# Altium schematic symbol library Alcetronics_IC.SchLib: 38 symbols
Pins are listed as number, name and electrical type; pins without a type are passive.

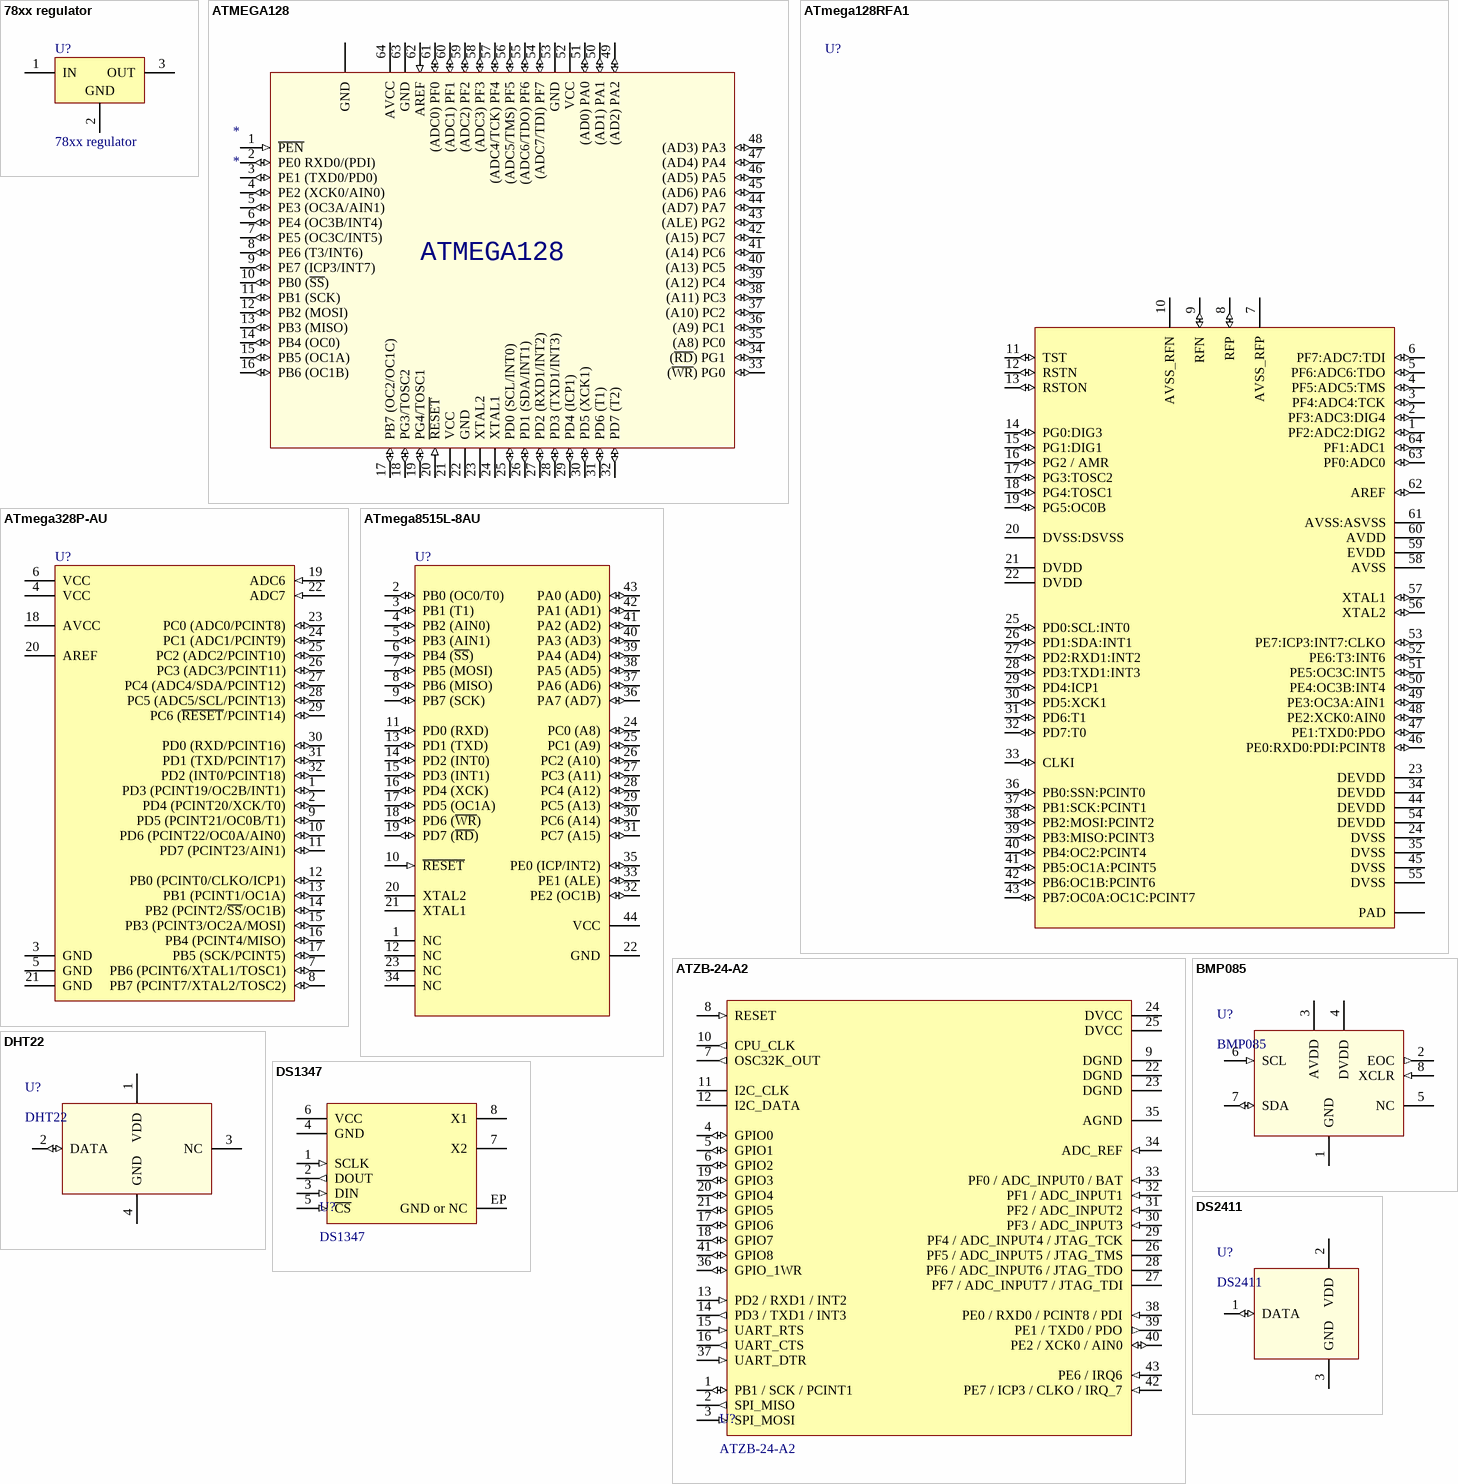
[diagram p0: symbols 78xx regulator to DS2411]

## 78xx regulator
designator U?
3-Terminal Medium-Current Positive Fixed Voltage Regulator; Note: Pin 2 is electrically connected to TAB; Published: 17-Jul-2002; DatasheetVersion: 1988; PackageReference: 221A-04; Publisher: Altium Limited; PackageDescription: TO, Thru-Hole, Vertical, Heatsink Mounted; 3 In-Line Leads; Pitch 2.54 mm; Code_JEDEC: TO-262-AA; ComponentLink1Description: Manufacturer Link; ComponentLink1URL: http://www.onsemi.com/site/products/taxonomy/0,4438,503,00.html; ComponentLink2Description: Datasheet; ComponentLink2URL: http://www.onsemi.com/pub/Collateral/MC78M00-D.PDF
footprint TO-220 (TO, Thru-Hole, Vertical, Heatsink Mounted; 3 In-Line Leads; Pitch 2.54 mm)
pins: 1 IN (power), 2 GND (power), 3 OUT (power)

## ATMEGA128
designator *
footprint QFN-64@EP
pins: 1 ~{PEN} (in), 2 PE0 RXD0/(PDI) (io), 3 PE1 (TXD0/PD0) (io), 4 PE2 (XCK0/AIN0) (io), 5 PE3 (OC3A/AIN1) (io), 6 PE4 (OC3B/INT4) (io), 7 PE5 (OC3C/INT5) (io), 8 PE6 (T3/INT6) (io), 9 PE7 (ICP3/INT7) (io), 10 PB0 (~{SS}) (io), 11 PB1 (SCK) (io), 12 PB2 (MOSI) (io), 13 PB3 (MISO) (io), 14 PB4 (OC0) (io), 15 PB5 (OC1A) (io), 16 PB6 (OC1B) (io), 17 PB7 (OC2/OC1C) (io), 18 PG3/TOSC2 (io), 19 PG4/TOSC1 (io), 20 ~{RESET} (in), 21 VCC (power), 22 GND (power), 23 XTAL2, 24 XTAL1, 25 PD0 (SCL/INT0) (io), 26 PD1 (SDA/INT1) (io), 27 PD2 (RXD1/INT2) (io), 28 PD3 (TXD1/INT3) (io), 29 PD4 (ICP1) (io), 30 PD5 (XCK1) (io), 31 PD6 (T1) (io), 32 PD7 (T2) (io), 33 (~{WR}) PG0 (io), 34 (~{RD}) PG1 (io), 35 (A8) PC0 (io), 36 (A9) PC1 (io), 37 (A10) PC2 (io), 38 (A11) PC3 (io), 39 (A12) PC4 (io), 40 (A13) PC5 (io), 41 (A14) PC6 (io), 42 (A15) PC7 (io), 43 (ALE) PG2 (io), 44 (AD7) PA7 (io), 45 (AD6) PA6 (io), 46 (AD5) PA5 (io), 47 (AD4) PA4 (io), 48 (AD3) PA3 (io), 49 (AD2) PA2 (io), 50 (AD1) PA1 (io), 51 (AD0) PA0 (io), 52 VCC (power), 53 GND (power), 54 (ADC7/TDI) PF7 (io), 55 (ADC6/TDO) PF6 (io), 56 (ADC5/TMS) PF5 (io), 57 (ADC4/TCK) PF4 (io), 58 (ADC3) PF3 (io), 59 (ADC2) PF2 (io), 60 (ADC1) PF1 (io), 61 (ADC0) PF0 (io), 62 AREF (in), 63 GND (power), 64 AVCC (power), PAD GND (power)

## ATmega128RFA1
designator U?
802.15.4 compliant AVR transceiver; verified by: vlarsen; verified date: 2010-12-05; Status: Verified
footprint QFN-64@EP
pins: 1 PF2:ADC2:DIG2 (io), 2 PF3:ADC3:DIG4 (io), 3 PF4:ADC4:TCK (io), 4 PF5:ADC5:TMS (io), 5 PF6:ADC6:TDO (io), 6 PF7:ADC7:TDI (io), 7 AVSS_RFP (power), 8 RFP (io), 9 RFN (io), 10 AVSS_RFN (power), 11 TST (io), 12 RSTN (io), 13 RSTON (io), 14 PG0:DIG3 (io), 15 PG1:DIG1 (io), 16 PG2 / AMR (io), 17 PG3:TOSC2 (io), 18 PG4:TOSC1 (io), 19 PG5:OC0B (io), 20 DVSS:DSVSS (power), 21 DVDD (power), 22 DVDD (power), 23 DEVDD (power), 24 DVSS (power), 25 PD0:SCL:INT0 (io), 26 PD1:SDA:INT1 (io), 27 PD2:RXD1:INT2 (io), 28 PD3:TXD1:INT3 (io), 29 PD4:ICP1 (io), 30 PD5:XCK1 (io), 31 PD6:T1 (io), 32 PD7:T0 (io), 33 CLKI (io), 34 DEVDD (power), 35 DVSS (power), 36 PB0:SSN:PCINT0 (io), 37 PB1:SCK:PCINT1 (io), 38 PB2:MOSI:PCINT2 (io), 39 PB3:MISO:PCINT3 (io), 40 PB4:OC2:PCINT4 (io), 41 PB5:OC1A:PCINT5 (io), 42 PB6:OC1B:PCINT6 (io), 43 PB7:OC0A:OC1C:PCINT7 (io), 44 DEVDD (power), 45 DVSS (power), 46 PE0:RXD0:PDI:PCINT8 (io), 47 PE1:TXD0:PDO (io), 48 PE2:XCK0:AIN0 (io), 49 PE3:OC3A:AIN1 (io), 50 PE4:OC3B:INT4 (io), 51 PE5:OC3C:INT5 (io), 52 PE6:T3:INT6 (io), 53 PE7:ICP3:INT7:CLKO (io), 54 DEVDD (power), 55 DVSS (power), 56 XTAL2 (io), 57 XTAL1 (io), 58 AVSS (power), 59 EVDD (power), 60 AVDD (power), 61 AVSS:ASVSS (power), 62 AREF (io), 63 PF0:ADC0 (io), 64 PF1:ADC1 (io), PAD (power)

## ATmega328P-AU
designator U?
8-bit AVR Microcontroller, 32KB Flash, 1KB EEPROM, 2KB SRAM, 32-pin TQFP, Industrial Grade (-40°C to 85°C); Published: 1-Apr-2010; DatasheetVersion: revA, Jan-2010; PackageVersion: revB, Oct-2001; PackageReference: 32A; Publisher: Altium Limited; PackageDescription: 32-Lead, 7x7x1.0 mm Body, 0.8mm Lead Pitch, Thin Profile Plastic Quad Flat Package (TQFP); Supplier 1: Digi-Key; Supplier Part Number 1: ATMEGA328P-AU-ND; Supplier 2: Farnell; Supplier Part Number 2: 1715486; Supplier 3: Mouser; Supplier Part Number 3: 556-ATMEGA328P-AU; Code_JEDEC: MS-026-ABA; ComponentLink1Description: Manufacturer Link; ComponentLink1URL: http://www.atmel.com/products/avr/default.asp?; ComponentLink2Description: ATmega48A/48PA/88A/88PA/168A/168PA/328/328P Datasheet; ComponentLink2URL: http://www.atmel.com/dyn/resources/prod_documents/8271.pdf; ComponentLink3Description: ATmega48A/48PA/88A/88PA/168A/168PA/328/328P Summary; ComponentLink3URL: http://www.atmel.com/dyn/resources/prod_documents/8271S.pdf; ComponentLink4Description: Atmel.com Home; ComponentLink4URL: http://www.atmel.com
footprint TQFP-32 (Thin QFP, 32-Leads, Body 7x7mm, Pitch 0.8mm, IPC Medium Density)
pins: 1 PD3 (PCINT19/OC2B/INT1) (io), 2 PD4 (PCINT20/XCK/T0) (io), 3 GND (power), 4 VCC (power), 5 GND (power), 6 VCC (power), 7 PB6 (PCINT6/XTAL1/TOSC1) (io), 8 PB7 (PCINT7/XTAL2/TOSC2) (io), 9 PD5 (PCINT21/OC0B/T1) (io), 10 PD6 (PCINT22/OC0A/AIN0) (io), 11 PD7 (PCINT23/AIN1) (io), 12 PB0 (PCINT0/CLKO/ICP1) (io), 13 PB1 (PCINT1/OC1A) (io), 14 PB2 (PCINT2/~{SS}/OC1B) (io), 15 PB3 (PCINT3/OC2A/MOSI) (io), 16 PB4 (PCINT4/MISO) (io), 17 PB5 (SCK/PCINT5) (io), 18 AVCC (power), 19 ADC6 (in), 20 AREF, 21 GND (power), 22 ADC7 (in), 23 PC0 (ADC0/PCINT8) (io), 24 PC1 (ADC1/PCINT9) (io), 25 PC2 (ADC2/PCINT10) (io), 26 PC3 (ADC3/PCINT11) (io), 27 PC4 (ADC4/SDA/PCINT12) (io), 28 PC5 (ADC5/SCL/PCINT13) (io), 29 PC6 (~{RESET}/PCINT14) (io), 30 PD0 (RXD/PCINT16) (io), 31 PD1 (TXD/PCINT17) (io), 32 PD2 (INT0/PCINT18) (io)

## ATmega8515L-8AU
designator U?
8-bit AVR Microcontroller, 8KB Flash, 512 Bytes EEPROM, 512 Bytes SRAM, 2.7-5.5V, 44-pin TQFP, Industrial Grade (-40°C to 85°C); Published: 1-Apr-2010; DatasheetVersion: revK, Jan-2010; PackageVersion: rev.B, Oct-2001; PackageReference: 44A; Publisher: Altium Limited; PackageDescription: 44-Pin Plastic Thin Profile Quad Flat Pack, 10 x 10 x 1.0 mm Body, 0.8 mm Pitch (TQFP); Supplier 1: Digi-Key; Supplier Part Number 1: ATMEGA8515L-8AU-ND; Supplier 2: Farnell; Supplier Part Number 2: 9171410; Supplier 3: Farnell; Supplier Part Number 3: 1528435; Supplier 4: Mouser; Supplier Part Number 4: 556-ATMEGA8515L-8AU; ComponentLink1Description: Manufacturer Link; ComponentLink1URL: http://www.atmel.com/products/avr/default.asp?; ComponentLink2Description: ATmega8515(L) Datasheet; ComponentLink2URL: http://www.atmel.com/dyn/resources/prod_documents/doc2512.pdf; ComponentLink3Description: ATmega8515(L) Summary; ComponentLink3URL: http://www.atmel.com/dyn/resources/prod_documents/2512S.pdf; ComponentLink4Description: Atmel.com Home; ComponentLink4URL: http://www.atmel.com
footprint TQFP-44 (Thin QFP, 44-Leads, Body 10x10mm, Pitch 0.8mm, IPC Medium Density)
pins: 1 NC, 2 PB0 (OC0/T0) (io), 3 PB1 (T1) (io), 4 PB2 (AIN0) (io), 5 PB3 (AIN1) (io), 6 PB4 (~{SS}) (io), 7 PB5 (MOSI) (io), 8 PB6 (MISO) (io), 9 PB7 (SCK) (io), 10 ~{RESET} (in), 11 PD0 (RXD) (io), 12 NC, 13 PD1 (TXD) (io), 14 PD2 (INT0) (io), 15 PD3 (INT1) (io), 16 PD4 (XCK) (io), 17 PD5 (OC1A) (io), 18 PD6 (~{WR}) (io), 19 PD7 (~{RD}) (io), 20 XTAL2, 21 XTAL1, 22 GND (power), 23 NC, 24 PC0 (A8) (io), 25 PC1 (A9) (io), 26 PC2 (A10) (io), 27 PC3 (A11) (io), 28 PC4 (A12) (io), 29 PC5 (A13) (io), 30 PC6 (A14) (io), 31 PC7 (A15) (io), 32 PE2 (OC1B) (io), 33 PE1 (ALE) (io), 34 NC, 35 PE0 (ICP/INT2) (io), 36 PA7 (AD7) (io), 37 PA6 (AD6) (io), 38 PA5 (AD5) (io), 39 PA4 (AD4) (io), 40 PA3 (AD3) (io), 41 PA2 (AD2) (io), 42 PA1 (AD1) (io), 43 PA0 (AD0) (io), 44 VCC (power)

## ATZB-24-A2
designator U?
Zigbee Module; Type: IC; Creation Date: 2012-03-06
footprint ATZB-24-A2 (Atmel ATZB-24-A2 footprint)
pins: 1 PB1 / SCK / PCINT1 (io), 2 SPI_MISO (out), 3 SPI_MOSI (in), 4 GPIO0 (io), 5 GPIO1 (io), 6 GPIO2 (io), 7 OSC32K_OUT (out), 8 RESET (in), 9 DGND (power), 10 CPU_CLK (out), 11 I2C_CLK (oc), 12 I2C_DATA (oc), 13 PD2 / RXD1 / INT2 (in), 14 PD3 / TXD1 / INT3 (out), 15 UART_RTS (in), 16 UART_CTS (out), 17 GPIO6 (io), 18 GPIO7 (io), 19 GPIO3 (io), 20 GPIO4 (io), 21 GPIO5 (io), 22 DGND (power), 23 DGND (power), 24 DVCC (power), 25 DVCC (power), 26 PF5 / ADC_INPUT5 / JTAG_TMS (oc), 27 PF7 / ADC_INPUT7 / JTAG_TDI (oc), 28 PF6 / ADC_INPUT6 / JTAG_TDO (oc), 29 PF4 / ADC_INPUT4 / JTAG_TCK (oc), 30 PF3 / ADC_INPUT3 (in), 31 PF2 / ADC_INPUT2 (in), 32 PF1 / ADC_INPUT1 (in), 33 PF0 / ADC_INPUT0 / BAT (in), 34 ADC_REF (in), 35 AGND (power), 36 GPIO_1WR (io), 37 UART_DTR (in), 38 PE0 / RXD0 / PCINT8 / PDI (in), 39 PE1 / TXD0 / PDO (out), 40 PE2 / XCK0 / AIN0 (io), 41 GPIO8 (io), 42 PE7 / ICP3 / CLKO / IRQ_7 (in), 43 PE6 / IRQ6 (in)

## BMP085
designator U?
Digital Pressure Sensor; Type: IC; Creation Date: 2012-03-05
footprint CLCC-8
pins: 1 GND (power), 2 EOC (out), 3 AVDD (power), 4 DVDD (power), 5 NC, 6 SCL (in), 7 SDA (io), 8 XCLR (in)

## DHT22
designator U?
Digital Humidity and Temperature Sensor; Type: IC; Creation Date: 2012-12-09
footprint DHT22 (DHT22 humidity sensor footprint)
pins: 1 VDD (power), 2 DATA (io), 3 NC, 4 GND (power)

## DS1347
designator U?
Low-Current, SPI-Compatible Real-Time Clock
footprint TDFN-8 (SON, 8-Leads, Body 2x3mm, Pitch 0.5mm, Microchip Recommended)
pins: 1 SCLK (in), 2 DOUT (out), 3 DIN (in), 4 GND (power), 5 ~{CS} (in), 6 VCC (power), 7 X2, 8 X1, EP GND or NC

## DS2411
designator U?
Silicon Serial Number; Type: IC; Creation Date: 2012-12-10
footprint SOT-23
pins: 1 DATA (io), 2 VDD (power), 3 GND (power)

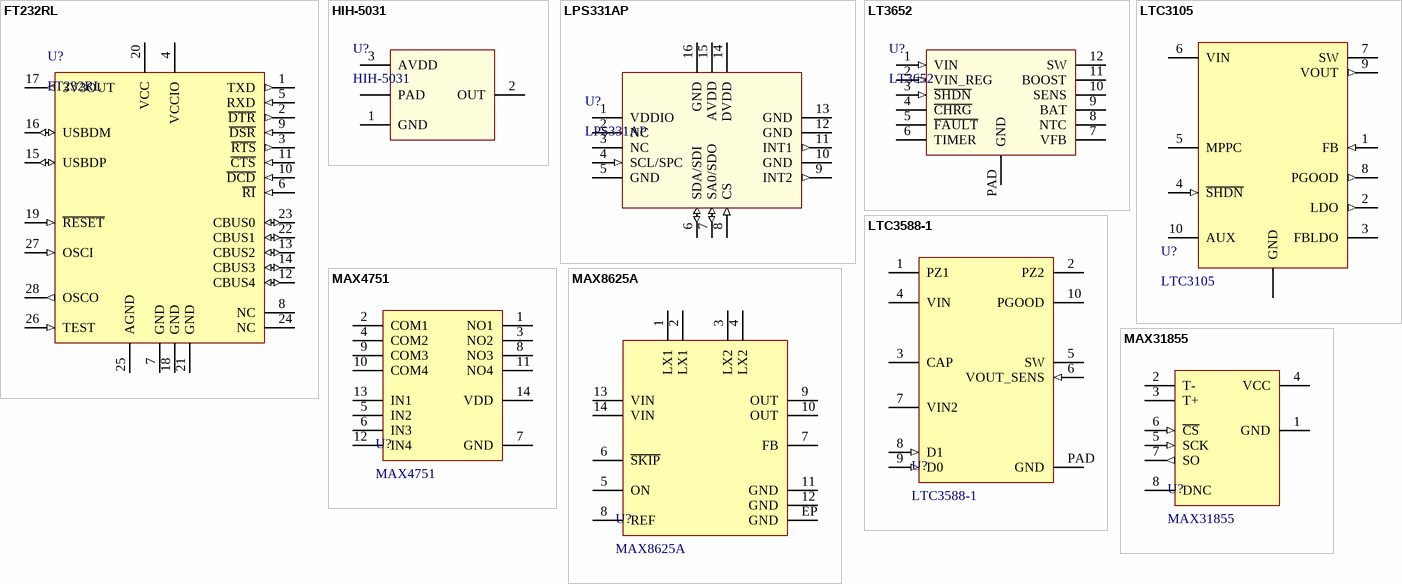
[diagram p1: symbols FT232RL to MAX31855]

## FT232RL
designator U?
USB UART Asynchronous Serial Data Transfer Chip, SSOP-28, Tube; Published: 19-Aug-2010; DatasheetVersion: ver 2.07, Jul-2010; PackageVersion: 2010; PackageReference: SSOP-28; Publisher: Altium Limited; PackageDescription: 28-Pin Small Outline Package 0.65 mm Pitch; ComponentLink1Description: Manufacturer Link; ComponentLink1URL: http://www.ftdichip.com/Products/ICs/FT232R.htm; ComponentLink2Description: Datasheet; ComponentLink2URL: http://www.ftdichip.com/Support/Documents/DataSheets/ICs/DS_FT232R.pdf
footprint SSOP-28
pins: 1 TXD (out), 2 ~{DTR} (out), 3 ~{RTS} (out), 4 VCCIO (power), 5 RXD (in), 6 ~{RI} (in), 7 GND (power), 8 NC, 9 ~{DSR} (in), 10 ~{DCD} (in), 11 ~{CTS} (in), 12 CBUS4 (io), 13 CBUS2 (io), 14 CBUS3 (io), 15 USBDP (io), 16 USBDM (io), 17 3V3OUT (out), 18 GND (power), 19 ~{RESET} (in), 20 VCC (power), 21 GND (power), 22 CBUS1 (io), 23 CBUS0 (io), 24 NC, 25 AGND (power), 26 TEST (in), 27 OSCI (in), 28 OSCO (out)

## HIH-5031
designator U?
Low Voltage Humidity Sensor; Type: IC; Creation Date: 2012-03-05
footprint HIH (Honeywell Humidity Sensor)
pins: 1 GND (power), 2 OUT, 3 AVDD (power), PAD

## LPS331AP
designator U?
Digital Pressure Sensor, 260 - 1260 mbar; Creation Date: 2012-12-06; Type: IC
footprint HCLGA-16
pins: 1 VDDIO (power), 2 NC, 3 NC, 4 SCL/SPC (in), 5 GND (power), 6 SDA/SDI (io), 7 SA0/SDO (io), 8 CS (in), 9 INT2 (out), 10 GND (power), 11 INT1 (out), 12 GND (power), 13 GND (power), 14 DVDD (power), 15 AVDD (power), 16 GND (power)

## LT3652
designator U?
Power Tracking 2A Battery Charger for Solar Power; Type: IC; Creation Date: 2012-03-05
footprint MSOP12@EP
pins: 1 VIN (in), 2 VIN_REG (in), 3 ~{SHDN} (in), 4 ~{CHRG} (oc), 5 ~{FAULT} (oc), 6 TIMER, 7 VFB, 8 NTC, 9 BAT (power), 10 SENS, 11 BOOST, 12 SW, PAD GND

## LTC3105
designator U?
400mA Step-Up DCDC Converter With MPPC and 250mV Start-Up; Type: IC; Creation Date: 2012-03-14
footprint DFN-10@EP
pins: 1 FB (in), 2 LDO (out), 3 FBLDO, 4 ~{SHDN} (in), 5 MPPC, 6 VIN, 7 SW (power), 8 PGOOD (out), 9 VOUT (out), 10 AUX, PAD GND

## LTC3588-1
designator U?
Energy harvester; Type: IC; Creation Date: 2012-03-06
footprint MSOP10@EP (eMSOP, 10-Leads)
pins: 1 PZ1, 2 PZ2, 3 CAP, 4 VIN, 5 SW (power), 6 VOUT_SENS (in), 7 VIN2, 8 D1 (in), 9 D0 (in), 10 PGOOD, PAD GND

## MAX4751
designator U?
4 analog switch (normally open)
footprint TSSOP-14 (Thin Small Outline Package)
pins: 1 NO1, 2 COM1, 3 NO2, 4 COM2, 5 IN2, 6 IN3, 7 GND, 8 NO3, 9 COM3, 10 COM4, 11 NO4, 12 IN4, 13 IN1, 14 VDD

## MAX8625A
designator U?
Step up/down DCDC converter
footprint TDFN-EP-14
pins: 1 LX1, 2 LX1, 3 LX2, 4 LX2, 5 ON, 6 ~{SKIP}, 7 FB, 8 REF, 9 OUT, 10 OUT, 11 GND, 12 GND, 13 VIN, 14 VIN, EP GND

## MAX31855
designator U?
Cold-Junction Compensated Thermocouple-to-Digital Converter
footprint SOIC-8 (Small Outline 8 leads Body Size 150mils)
pins: 1 GND (power), 2 T-, 3 T+, 4 VCC (power), 5 SCK (in), 6 ~{CS} (in), 7 SO (out), 8 DNC (hiz)

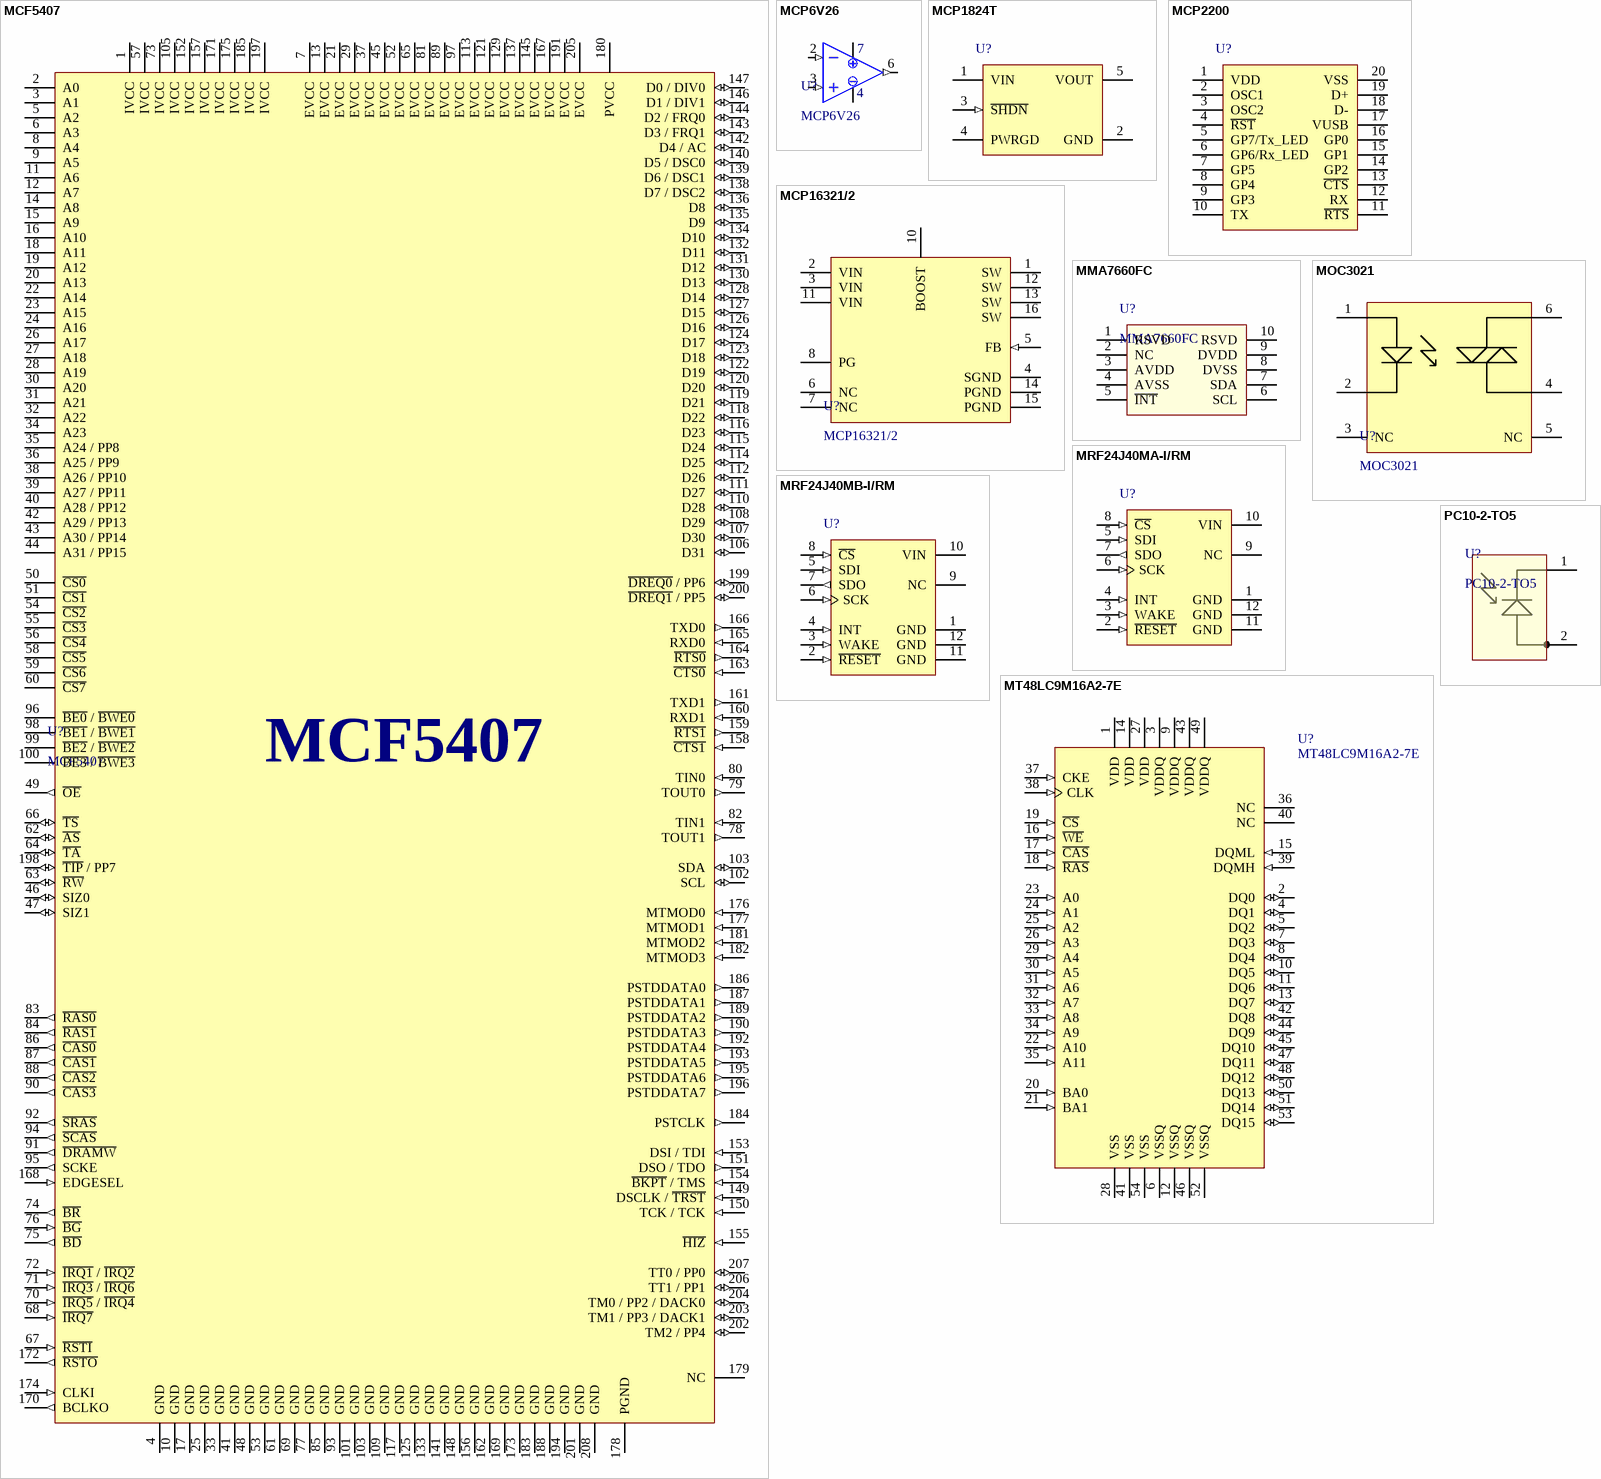
[diagram p2: symbols MCF5407 to PC10-2-TO5]

## MCF5407
designator U?
Motorola ColdFire 5407
footprint TSQFP-208 (Thin QFP, 208-Leads, Body 28x28mm, Pitch 0.5mm, IPC Medium Density)
pins: 1 IVCC (power), 2 A0, 3 A1, 4 GND (power), 5 A2, 6 A3, 7 EVCC (power), 8 A4, 9 A5, 10 GND (power), 11 A6, 12 A7, 13 EVCC (power), 14 A8, 15 A9, 16 A10, 17 GND (power), 18 A11, 19 A12, 20 A13, 21 EVCC (power), 22 A14, 23 A15, 24 A16, 25 GND (power), 26 A17, 27 A18, 28 A19, 29 EVCC (power), 30 A20, 31 A21, 32 A22, 33 GND (power), 34 A23, 35 A24 / PP8, 36 A25 / PP9, 37 EVCC (power), 38 A26 / PP10, 39 A27 / PP11, 40 A28 / PP12, 41 GND (power), 42 A29 / PP13, 43 A30 / PP14, 44 A31 / PP15, 45 EVCC (power), 46 SIZ0 (io), 47 SIZ1 (io), 48 GND (power), 49 ~{OE} (out), 50 ~{CS0}, 51 ~{CS1}, 52 EVCC (power), 53 GND (power), 54 ~{CS2}, 55 ~{CS3}, 56 ~{CS4}, 57 IVCC (power), 58 ~{CS5}, 59 ~{CS6}, 60 ~{CS7}, 61 GND (power), 62 ~{AS} (io), 63 ~{RW} (io), 64 ~{TA} (io), 65 EVCC (power), 66 ~{TS} (io), 67 ~{RSTI} (in), 68 ~{IRQ7} (in), 69 GND (power), 70 ~{IRQ5} / ~{IRQ4} (in), 71 ~{IRQ3} / ~{IRQ6} (in), 72 ~{IRQ1} / ~{IRQ2} (in), 73 IVCC (power), 74 ~{BR} (out), 75 ~{BD} (out), 76 ~{BG} (in), 77 GND (power), 78 TOUT1 (out), 79 TOUT0 (out), 80 TIN0 (in), 81 EVCC (power), 82 TIN1 (in), 83 ~{RAS0} (out), 84 ~{RAS1} (out), 85 GND (power), 86 ~{CAS0} (out), 87 ~{CAS1} (out), 88 ~{CAS2} (out), 89 EVCC (power), 90 ~{CAS3} (out), 91 ~{DRAMW} (out), 92 ~{SRAS} (out), 93 GND (power), 94 ~{SCAS} (out), 95 SCKE (out), 96 ~{BE0} / ~{BWE0}, 97 EVCC (power), 98 ~{BE1} / ~{BWE1}, 99 ~{BE2} / ~{BWE2}, 100 ~{BE3} / ~{BWE3}, 101 GND (power), 102 SCL (io), 103 GND (power), 103 SDA (io), 105 IVCC (power), 106 D31 (io), 107 D30 (io), 108 D29 (io), 109 GND (power), 110 D28 (io), 111 D27 (io), 112 D26 (io), 113 EVCC (power), 114 D25 (io), 115 D24 (io), 116 D23 (io), 117 GND (power), 118 D22 (io), 119 D21 (io), 120 D20 (io), 121 EVCC (power), 122 D19 (io), 123 D18 (io), 124 D17 (io), 125 GND (power), 126 D16 (io), 127 D15 (io), 128 D14 (io), 129 EVCC (power), 130 D13 (io), 131 D12 (io), 132 D11 (io), 133 GND (power), 134 D10 (io), 135 D9 (io), 136 D8 (io), 137 EVCC (power), 138 D7 / DSC2 (io), 139 D6 / DSC1 (io), 140 D5 / DSC0 (io), 141 GND (power), 142 D4 / AC (io), 143 D3 / FRQ1 (io), 144 D2 / FRQ0 (io), 145 EVCC (power), 146 D1 / DIV1 (io), 147 D0 / DIV0 (io), 148 GND (power), 149 DSCLK / ~{TRST} (in), 150 TCK / TCK (in), 151 DSO / TDO (out), 152 IVCC (power), 153 DSI / TDI (in), 154 ~{BKPT} / TMS (in), 155 ~{HIZ} (in), 156 GND (power), 157 IVCC (power), 158 ~{CTS1} (in), 159 ~{RTS1} (out), 160 RXD1 (in), 161 TXD1 (out), 162 GND (power), 163 ~{CTS0} (in), 164 ~{RTS0} (out), 165 RXD0 (in), 166 TXD0 (out), 167 EVCC (power), 168 EDGESEL (in), 169 GND (power), 170 BCLKO (out), 171 IVCC (power), 172 ~{RSTO} (out), 173 GND (power), 174 CLKI (in), 175 IVCC (power), 176 MTMOD0 (in), 177 MTMOD1 (in), 178 PGND (power), 179 NC, 180 PVCC (power), 181 MTMOD2 (in), 182 MTMOD3 (in), 183 GND (power), 184 PSTCLK (out), 185 IVCC (power), 186 PSTDDATA0 (out), 187 PSTDDATA1 (out), 188 GND (power), 189 PSTDDATA2 (out), 190 PSTDDATA3 (out), 191 EVCC (power), 192 PSTDDATA4 (out), 193 PSTDDATA5 (out), 194 GND (power), 195 PSTDDATA6 (out), 196 PSTDDATA7 (out), 197 IVCC (power), 198 ~{TIP} / PP7 (io), 199 ~{DREQ0} / PP6 (io), 200 ~{DREQ1} / PP5 (io), 201 GND (power), 202 TM2 / PP4 (io), 203 TM1 / PP3 / DACK1 (io), 204 TM0 / PP2 / DACK0 (io), 205 EVCC (power), 206 TT1 / PP1 (io), 207 TT0 / PP0 (io), 208 GND (power)

## MCP6V26
designator U?
Low-Offset Opamp; Type: IC; Creation Date: 2012-03-15
footprint SOIC-8 (Small Outline 8 leads Body Size 150mils)
pins: 2 INN (in), 3 INP (in), 4 VSS (power), 6 VOUT (out), 7 VDD (power)

## MCP1824T
designator U?
300 mA, Low Voltage, Low Quiescent Current LDO Regulator, 5-Pin SOT-23, Extended Temperature, Tape and Reel; Published: 29-Jan-2009; DatasheetVersion: revA, Aug-2007; PackageVersion: revBB, Aug-2009; PackageReference: SOT-23-OT5; Publisher: Altium Limited; PackageDescription: 5-Lead Plastic Small Outline Transistor (OT) [SOT-23]; Supplier 1: Digi-Key; Supplier Part Number 1: MCP1824T-3302E/OTTR-ND; Supplier 2: Digi-Key; Supplier Part Number 2: MCP1824T-3302E/OTCT-ND; Supplier 3: Digi-Key; Supplier Part Number 3: MCP1824T-3302E/OTDKR-ND; Supplier 4: Farnell; Supplier Part Number 4: 1578387; Code_IPC: SOT23-5; ComponentLink1Description: Datasheet; ComponentLink1URL: http://ww1.microchip.com/downloads/en/DeviceDoc/22070a.pdf; ComponentLink2Description: Packaging Specification; ComponentLink2URL: http://www.microchip.com/stellent/groups/techpub_sg/documents/packagingspec/en012702.pdf; ComponentLink3Description: Microchip.com Home; ComponentLink3URL: http://www.microchip.com/
footprint SOT-23-5
pins: 1 VIN (power), 2 GND (power), 3 ~{SHDN} (in), 4 PWRGD (power), 5 VOUT (power)

## MCP2200
designator U?
USB to Serial interface; Published: 29-Jan-2009; DatasheetVersion: revE, Aug-2007; PackageVersion: revBB, Aug-2009; PackageReference: SSOP-SS20; Publisher: Altium Limited; PackageDescription: 20-Lead Plastic Shrink Small Outline (SS) - 5.3mm Body [SSOP]; Supplier 1: Digi-Key; Supplier Part Number 1: MCP23008T-E/SS-ND; Code_JEDEC: MO-150; Code_IPC: SOP65P780-20; ComponentLink1Description: Datasheet; ComponentLink1URL: http://ww1.microchip.com/downloads/en/DeviceDoc/21919e.pdf; ComponentLink2Description: Packaging Specification; ComponentLink2URL: http://www.microchip.com/stellent/groups/techpub_sg/documents/packagingspec/en012702.pdf; ComponentLink3Description: Microchip.com Home; ComponentLink3URL: http://www.microchip.com/
footprint SOIC-20 (20-Pin Plastic Wide Body Small Outline Integrated Circuit 1.27 mm Pitch, IPC Medium Density)
pins: 1 VDD (power), 2 OSC1, 3 OSC2, 4 ~{RST}, 5 GP7/Tx_LED, 6 GP6/Rx_LED, 7 GP5, 8 GP4, 9 GP3, 10 TX, 11 ~{RTS}, 12 RX, 13 ~{CTS}, 14 GP2, 15 GP1, 16 GP0, 17 VUSB (power), 18 D-, 19 D+, 20 VSS (power)

## MCP16321/2
designator U?
24V Input, 1A/2A Output, High Efficiency Synchronous Buck Regulator  with Power Good Indicatio
footprint QFN50P300X300-16V4L (QFN, 16-Leads, Body 3x3mm, Pitch 0.5mm, IPC High Density)
pins: 1 SW (power), 2 VIN (power), 3 VIN (power), 4 SGND (power), 5 FB (in), 6 NC, 7 NC, 8 PG (oc), 10 BOOST (power), 11 VIN (power), 12 SW (power), 13 SW (power), 14 PGND (power), 15 PGND (power), 16 SW (power)

## MMA7660FC
designator U?
3-Axis Orientation/Motion Detection Sensor
footprint DFN-10
pins: 1 RSVD, 2 NC, 3 AVDD, 4 AVSS, 5 ~{INT}, 6 SCL, 7 SDA, 8 DVSS, 9 DVDD, 10 RSVD

## MOC3021
designator U?
400V Random-Phase Optoisolators Triac Driver Output
footprint dip-6 (Dual inline pins)
pins: 1 A, 2 K, 3 NC, 4 M1, 5 NC, 6 M2

## MRF24J40MA-I/RM
designator U?
2.4 GHz IEEE Std. 802.15.4, RF Transceiver 12-Pin Module, Industrial Temperature; Published: 29-Jan-2009; LatestRevisionDate: 30-Apr-2010; LatestRevisionNote: Sch Symbol pinout fixed.; DatasheetVersion: revB, Nov-2008; PackageVersion: Nov-2008; PackageReference: MRF24J40MA; Publisher: Altium Limited; PackageDescription: Transceiver Module; SM; 12 Leads; Body 1.1 x 0.7 x 0.067" (LxWxH), 0.1" Pitch; Supplier 1: Digi-Key; Supplier Part Number 1: MRF24J40MA-I/RM-ND; Supplier 2: Farnell; Supplier Part Number 2: 163020201; Supplier 3: Farnell; Supplier Part Number 3: 1630202; ComponentLink1Description: Datasheet; ComponentLink1URL: http://ww1.microchip.com/downloads/en/DeviceDoc/70329b.pdf; ComponentLink2Description: Packaging Specification; ComponentLink2URL: http://www.microchip.com/stellent/groups/techpub_sg/documents/packagingspec/en012702.pdf; ComponentLink3Description: Microchip.com Home; ComponentLink3URL: http://www.microchip.com/
footprint MRF24J40MA (SM Module; 12 Leads; Body 27.9x17.8x1.7mm (LxWxH), Microchip Recommended)
pins: 1 GND (power), 2 ~{RESET} (in), 3 WAKE (in), 4 INT (in), 5 SDI (in), 6 SCK (in), 7 SDO (out), 8 ~{CS} (in), 9 NC, 10 VIN (power), 11 GND (power), 12 GND (power)

## MRF24J40MB-I/RM
designator U?
2.4 GHz IEEE Std. 802.15.4, 20 dBm RF Transceiver 12-Pin Module, Industrial Temperature; Published: 2-Dec-2009; DatasheetVersion: revB, Aug-2009; PackageVersion: Aug-2009; PackageReference: MRF24J40MB; Publisher: Altium Limited; PackageDescription: Transceiver Module; SM; 12 Leads; Body 1.3 x 0.9 x 0.1" (LxWxH), 0.1" Pitch; Supplier 1: Digi-Key; Supplier Part Number 1: MRF24J40MB-I/RM-ND; Supplier 2: Farnell; Supplier Part Number 2: 175519901; Supplier 3: Farnell; Supplier Part Number 3: 1755199; ComponentLink1Description: Datasheet; ComponentLink1URL: http://ww1.microchip.com/downloads/en/DeviceDoc/70599B.pdf; ComponentLink2Description: Packaging Specification; ComponentLink2URL: http://www.microchip.com/stellent/groups/techpub_sg/documents/packagingspec/en012702.pdf; ComponentLink3Description: Microchip.com Home; ComponentLink3URL: http://www.microchip.com/
footprint MRF24J40MB (SM Module; 12 Leads; Body 33x22.9x2.5mm (LxWxH), Microchip Recommended)
pins: 1 GND (power), 2 ~{RESET} (in), 3 WAKE (in), 4 INT (in), 5 SDI (in), 6 SCK (in), 7 SDO (out), 8 ~{CS} (in), 9 NC, 10 VIN (power), 11 GND (power), 12 GND (power)

## MT48LC9M16A2-7E
designator U?
256Mb Synchronous High-Speed CMOS DRAM, 8Mb x 16Bit x 4 Banks, 54-Pin TSOP, Commercial; CycleTime: 7.5ns @ CL = 2 (PC133); RowAddress: 8K (A0-A12); ColumnAddress: 512 (A0-A8); Published: 11-Oct-2004; LatestRevisionDate: 13-Apr-2006; LatestRevisionNote: IPC-7351 Footprint Added.; DatasheetVersion: RevL, Oct-2007; PackageVersion: Sep-2003; PackageReference: TSOP2-54; Publisher: Altium Limited; PackageDescription: 54-Pin Plastic Small Outline Package 0.8 mm Pitch; Code_JEDEC: MS-024-FA; ComponentLink1Description: Manufacturer Link; ComponentLink1URL: http://www.micron.com; ComponentLink2Description: Datasheet; ComponentLink2URL: http://download.micron.com/pdf/datasheets/dram/sdram/256MSDRAM.pdf
footprint TSOP2-54 (54-Pin Plastic Small Outline Package 0.8 mm Pitch, IPC Low Density)
pins: 1 VDD (power) "Power Supply", 2 DQ0 (io) "Data Input/Output 0", 3 VDDQ (power) "DQ Power", 4 DQ1 (io) "Data Input/Output 1", 5 DQ2 (io) "Data Input/Output 2", 6 VSSQ (power) "DQ Ground", 7 DQ3 (io) "Data Input/Output 3", 8 DQ4 (io) "Data Input/Output 4", 9 VDDQ (power) "DQ Power", 10 DQ5 (io) "Data Input/Output 5", 11 DQ6 (io) "Data Input/Output 6", 12 VSSQ (power) "DQ Ground", 13 DQ7 (io) "Data Input/Output 7", 14 VDD (power) "Power Supply", 15 DQML (in) "Input/Output Mask for DQ0-DQ7", 16 ~{WE} (in) "Command Input", 17 ~{CAS} (in) "Command Input", 18 ~{RAS} (in) "Command Input", 19 ~{CS} (in) "Chip Select", 20 BA0 (in) "Bank Address Input 0", 21 BA1 (in) "Bank Address Input 1", 22 A10 (in) "Address Input 10", 23 A0 (in) "Address Input 0", 24 A1 (in) "Address Input 1", 25 A2 (in) "Address Input 2", 26 A3 (in) "Address Input 3", 27 VDD (power) "Power Supply", 28 VSS (power) "Ground", 29 A4 (in) "Address Input 4", 30 A5 (in) "Address Input 5", 31 A6 (in) "Address Input 6", 32 A7 (in) "Address Input 7", 33 A8 (in) "Address Input 8", 34 A9 (in) "Address Input 9", 35 A11 (in) "Address Input 11", 36 NC "Address Input 12", 37 CKE (in) "Clock Enable", 38 CLK (in) "Clock", 39 DQMH (in) "Input/Output Mask for DQ8-DQ15", 40 NC "No Connect", 41 VSS (power) "Ground", 42 DQ8 (io) "Data Input/Output 8", 43 VDDQ (power) "DQ Power", 44 DQ9 (io) "Data Input/Output 9", 45 DQ10 (io) "Data Input/Output 10", 46 VSSQ (power) "DQ Ground", 47 DQ11 (io) "Data Input/Output 11", 48 DQ12 (io) "Data Input/Output 12", 49 VDDQ (power) "DQ Power", 50 DQ13 (io) "Data Input/Output 13", 51 DQ14 (io) "Data Input/Output 14", 52 VSSQ (power) "DQ Ground", 53 DQ15 (io) "Data Input/Output 15", 54 VSS (power) "Ground"

## PC10-2-TO5
designator U?
UV Photodiode; Type: IC; Creation Date: 2012-03-05
footprint TO-5@UV (UV Sensor PC10-2-TO)
pins: 1, 2

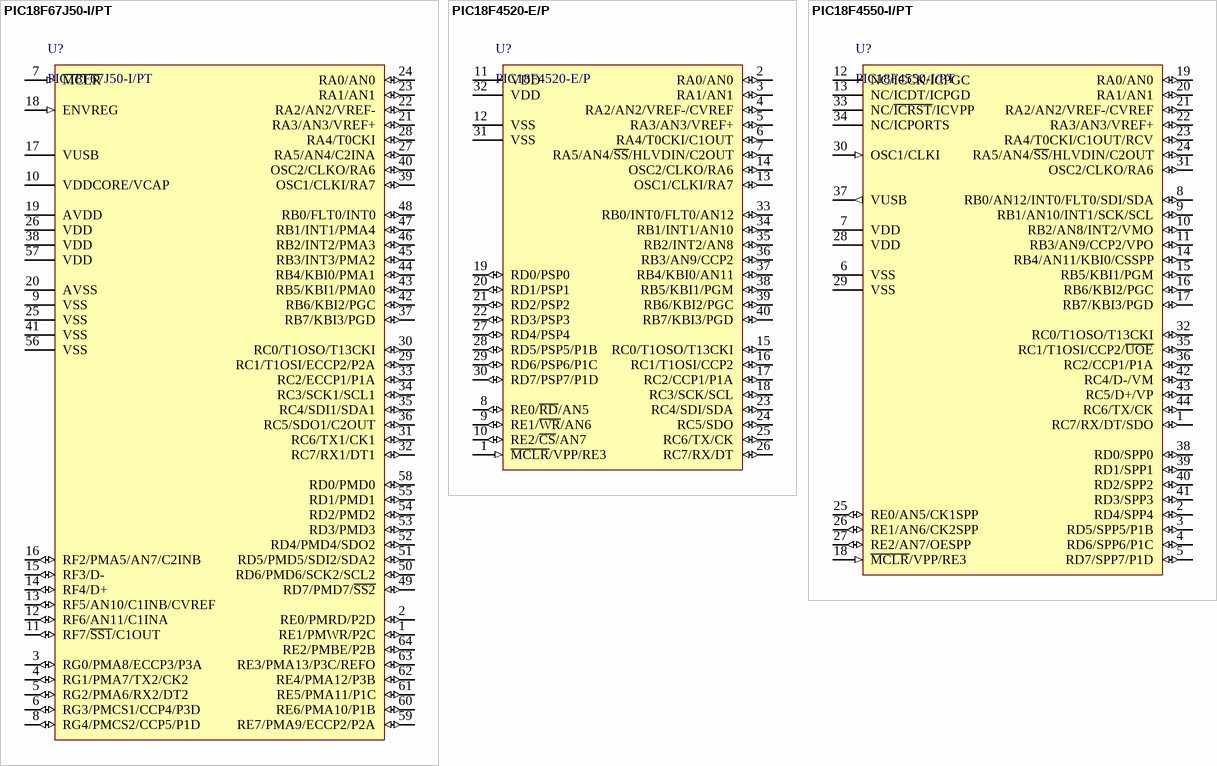
[diagram p3: symbols PIC18F67J50-I/PT to PIC18F4550-I/PT]

## PIC18F67J50-I/PT
designator U?
High Performance, 1-Mbit Flash USB Microcontroller with nanoWatt Technology, 128K Flash, 64-Pin TQFP, Industrial Temperature Range; Published: 29-Jan-2009; LatestRevisionDate: 02-Dec-2009; LatestRevisionNote: Updated to datesheet revision C, Oct-2009; DatasheetVersion: revC, Oct-2009; PackageVersion: revBB, Aug-2009; PackageReference: TQFP-PT64; Publisher: Altium Limited; PackageDescription: 64-Lead Thin Plastic Quad Flat Pack (PT) - 10x10x1mm Body, 2.00mm [TQFP]; Supplier 1: Digi-Key; Supplier Part Number 1: PIC18F67J50-I/PT-ND; Supplier 2: Farnell; Supplier Part Number 2: 1439559; Code_JEDEC: MS-026; ComponentLink1Description: Datasheet; ComponentLink1URL: http://ww1.microchip.com/downloads/en/DeviceDoc/39775c.pdf; ComponentLink2Description: Packaging Specification; ComponentLink2URL: http://www.microchip.com/stellent/groups/techpub_sg/documents/packagingspec/en012702.pdf; ComponentLink3Description: Microchip.com Home; ComponentLink3URL: http://www.microchip.com/
footprint TQFP-64 (Thin QFP, 64-Leads, Body 10x10mm, Pitch 0.5mm, IPC Medium Density)
pins: 1 RE1/PMWR/P2C (io), 2 RE0/PMRD/P2D (io), 3 RG0/PMA8/ECCP3/P3A (io), 4 RG1/PMA7/TX2/CK2 (io), 5 RG2/PMA6/RX2/DT2 (io), 6 RG3/PMCS1/CCP4/P3D (io), 7 ~{MCLR} (in), 8 RG4/PMCS2/CCP5/P1D (io), 9 VSS (power), 10 VDDCORE/VCAP (power), 11 RF7/~{SS1}/C1OUT (io), 12 RF6/AN11/C1INA (io), 13 RF5/AN10/C1INB/CVREF (io), 14 RF4/D+ (io), 15 RF3/D- (io), 16 RF2/PMA5/AN7/C2INB (io), 17 VUSB (power), 18 ENVREG (in), 19 AVDD (power), 20 AVSS (power), 21 RA3/AN3/VREF+ (io), 22 RA2/AN2/VREF- (io), 23 RA1/AN1 (io), 24 RA0/AN0 (io), 25 VSS (power), 26 VDD (power), 27 RA5/AN4/C2INA (io), 28 RA4/T0CKI (io), 29 RC1/T1OSI/ECCP2/P2A (io), 30 RC0/T1OSO/T13CKI (io), 31 RC6/TX1/CK1 (io), 32 RC7/RX1/DT1 (io), 33 RC2/ECCP1/P1A (io), 34 RC3/SCK1/SCL1 (io), 35 RC4/SDI1/SDA1 (io), 36 RC5/SDO1/C2OUT (io), 37 RB7/KBI3/PGD (io), 38 VDD (power), 39 OSC1/CLKI/RA7 (io), 40 OSC2/CLKO/RA6 (io), 41 VSS (power), 42 RB6/KBI2/PGC (io), 43 RB5/KBI1/PMA0 (io), 44 RB4/KBI0/PMA1 (io), 45 RB3/INT3/PMA2 (io), 46 RB2/INT2/PMA3 (io), 47 RB1/INT1/PMA4 (io), 48 RB0/FLT0/INT0 (io), 49 RD7/PMD7/~{SS2} (io), 50 RD6/PMD6/SCK2/SCL2 (io), 51 RD5/PMD5/SDI2/SDA2 (io), 52 RD4/PMD4/SDO2 (io), 53 RD3/PMD3 (io), 54 RD2/PMD2 (io), 55 RD1/PMD1 (io), 56 VSS (power), 57 VDD (power), 58 RD0/PMD0 (io), 59 RE7/PMA9/ECCP2/P2A (io), 60 RE6/PMA10/P1B (io), 61 RE5/PMA11/P1C (io), 62 RE4/PMA12/P3B (io), 63 RE3/PMA13/P3C/REFO (io), 64 RE2/PMBE/P2B (io)

## PIC18F4520-E/P
designator U?
Enhanced Flash Microcontroller with 10-Bit A/D and nanoWatt Technology, 32K Flash, 40-Pin PDIP, Extended Temperature Range; Published: 29-Jan-2009; LatestRevisionDate: 02-Dec-2009; LatestRevisionNote: Updated to datasheet revision E, Oct-2008; DatasheetVersion: revE, Oct-2008; PackageVersion: revBB, Aug-2009; PackageReference: PDIP600-P40; Publisher: Altium Limited; PackageDescription: 40-Lead Plastic Dual In-Line (P) - 600 mil Body [PDIP]; Supplier 1: Digi-Key; Supplier Part Number 1: PIC18F4520-E/P-ND; ComponentLink1Description: Datasheet; ComponentLink1URL: http://ww1.microchip.com/downloads/en/DeviceDoc/39631E.pdf; ComponentLink2Description: Packaging Specification; ComponentLink2URL: http://www.microchip.com/stellent/groups/techpub_sg/documents/packagingspec/en012702.pdf; ComponentLink3Description: Microchip.com Home; ComponentLink3URL: http://www.microchip.com/
footprint DIP-40 (DIP, 40-Leads, Row Spacing 15.24mm, Pitch 2.54mm, Body 51.8x13.5mm)
pins: 1 ~{MCLR}/VPP/RE3 (in), 2 RA0/AN0 (io), 3 RA1/AN1 (io), 4 RA2/AN2/VREF-/CVREF (io), 5 RA3/AN3/VREF+ (io), 6 RA4/T0CKI/C1OUT (io), 7 RA5/AN4/~{SS}/HLVDIN/C2OUT (io), 8 RE0/~{RD}/AN5 (io), 9 RE1/~{WR}/AN6 (io), 10 RE2/~{CS}/AN7 (io), 11 VDD (power), 12 VSS (power), 13 OSC1/CLKI/RA7 (io), 14 OSC2/CLKO/RA6 (io), 15 RC0/T1OSO/T13CKI (io), 16 RC1/T1OSI/CCP2 (io), 17 RC2/CCP1/P1A (io), 18 RC3/SCK/SCL (io), 19 RD0/PSP0 (io), 20 RD1/PSP1 (io), 21 RD2/PSP2 (io), 22 RD3/PSP3 (io), 23 RC4/SDI/SDA (io), 24 RC5/SDO (io), 25 RC6/TX/CK (io), 26 RC7/RX/DT (io), 27 RD4/PSP4 (io), 28 RD5/PSP5/P1B (io), 29 RD6/PSP6/P1C (io), 30 RD7/PSP7/P1D (io), 31 VSS (power), 32 VDD (power), 33 RB0/INT0/FLT0/AN12 (io), 34 RB1/INT1/AN10 (io), 35 RB2/INT2/AN8 (io), 36 RB3/AN9/CCP2 (io), 37 RB4/KBI0/AN11 (io), 38 RB5/KBI1/PGM (io), 39 RB6/KBI2/PGC (io), 40 RB7/KBI3/PGD (io)

## PIC18F4550-I/PT
designator U?
High Performance, Enhanced Flash, USB Microcontroller with nanoWatt Technology, 32K Flash, 44-Pin TQFP, Industrial Temperature Range; Published: 29-Jan-2009; LatestRevisionDate: 02-Dec-2009; LatestRevisionNote: Updated to datasheet revision E, Aug-2008; DatasheetVersion: revE, Aug-2008; PackageVersion: revBB, Aug-2009; PackageReference: TQFP-PT44; Publisher: Altium Limited; PackageDescription: 44-Lead Plastic Thin Quad Flatpack (PT) - 10x10x1mm Body, 2.00mm [TQFP]; Supplier 1: Digi-Key; Supplier Part Number 1: PIC18F4550-I/PT-ND; Supplier 2: Farnell; Supplier Part Number 2: 9321365; Supplier 3: Farnell; Supplier Part Number 3: 1528447; Code_JEDEC: MS-026; ComponentLink1Description: Datasheet; ComponentLink1URL: http://ww1.microchip.com/downloads/en/DeviceDoc/39632e.pdf; ComponentLink2Description: Packaging Specification; ComponentLink2URL: http://www.microchip.com/stellent/groups/techpub_sg/documents/packagingspec/en012702.pdf; ComponentLink3Description: Microchip.com Home; ComponentLink3URL: http://www.microchip.com/
footprint TQFP-44 (Thin QFP, 44-Leads, Body 10x10mm, Pitch 0.8mm, IPC Medium Density)
pins: 1 RC7/RX/DT/SDO (io), 2 RD4/SPP4 (io), 3 RD5/SPP5/P1B (io), 4 RD6/SPP6/P1C (io), 5 RD7/SPP7/P1D (io), 6 VSS (power), 7 VDD (power), 8 RB0/AN12/INT0/FLT0/SDI/SDA (io), 9 RB1/AN10/INT1/SCK/SCL (io), 10 RB2/AN8/INT2/VMO (io), 11 RB3/AN9/CCP2/VPO (io), 12 NC/ICCK/ICPGC, 13 NC/ICDT/ICPGD, 14 RB4/AN11/KBI0/CSSPP (io), 15 RB5/KBI1/PGM (io), 16 RB6/KBI2/PGC (io), 17 RB7/KBI3/PGD (io), 18 ~{MCLR}/VPP/RE3 (in), 19 RA0/AN0 (io), 20 RA1/AN1 (io), 21 RA2/AN2/VREF-/CVREF (io), 22 RA3/AN3/VREF+ (io), 23 RA4/T0CKI/C1OUT/RCV (io), 24 RA5/AN4/~{SS}/HLVDIN/C2OUT (io), 25 RE0/AN5/CK1SPP (io), 26 RE1/AN6/CK2SPP (io), 27 RE2/AN7/OESPP (io), 28 VDD (power), 29 VSS (power), 30 OSC1/CLKI (in), 31 OSC2/CLKO/RA6 (io), 32 RC0/T1OSO/T13CKI (io), 33 NC/~{ICRST}/ICVPP, 34 NC/ICPORTS, 35 RC1/T1OSI/CCP2/~{UOE} (io), 36 RC2/CCP1/P1A (io), 37 VUSB (out), 38 RD0/SPP0 (io), 39 RD1/SPP1 (io), 40 RD2/SPP2 (io), 41 RD3/SPP3 (io), 42 RC4/D-/VM (io), 43 RC5/D+/VP (io), 44 RC6/TX/CK (io)

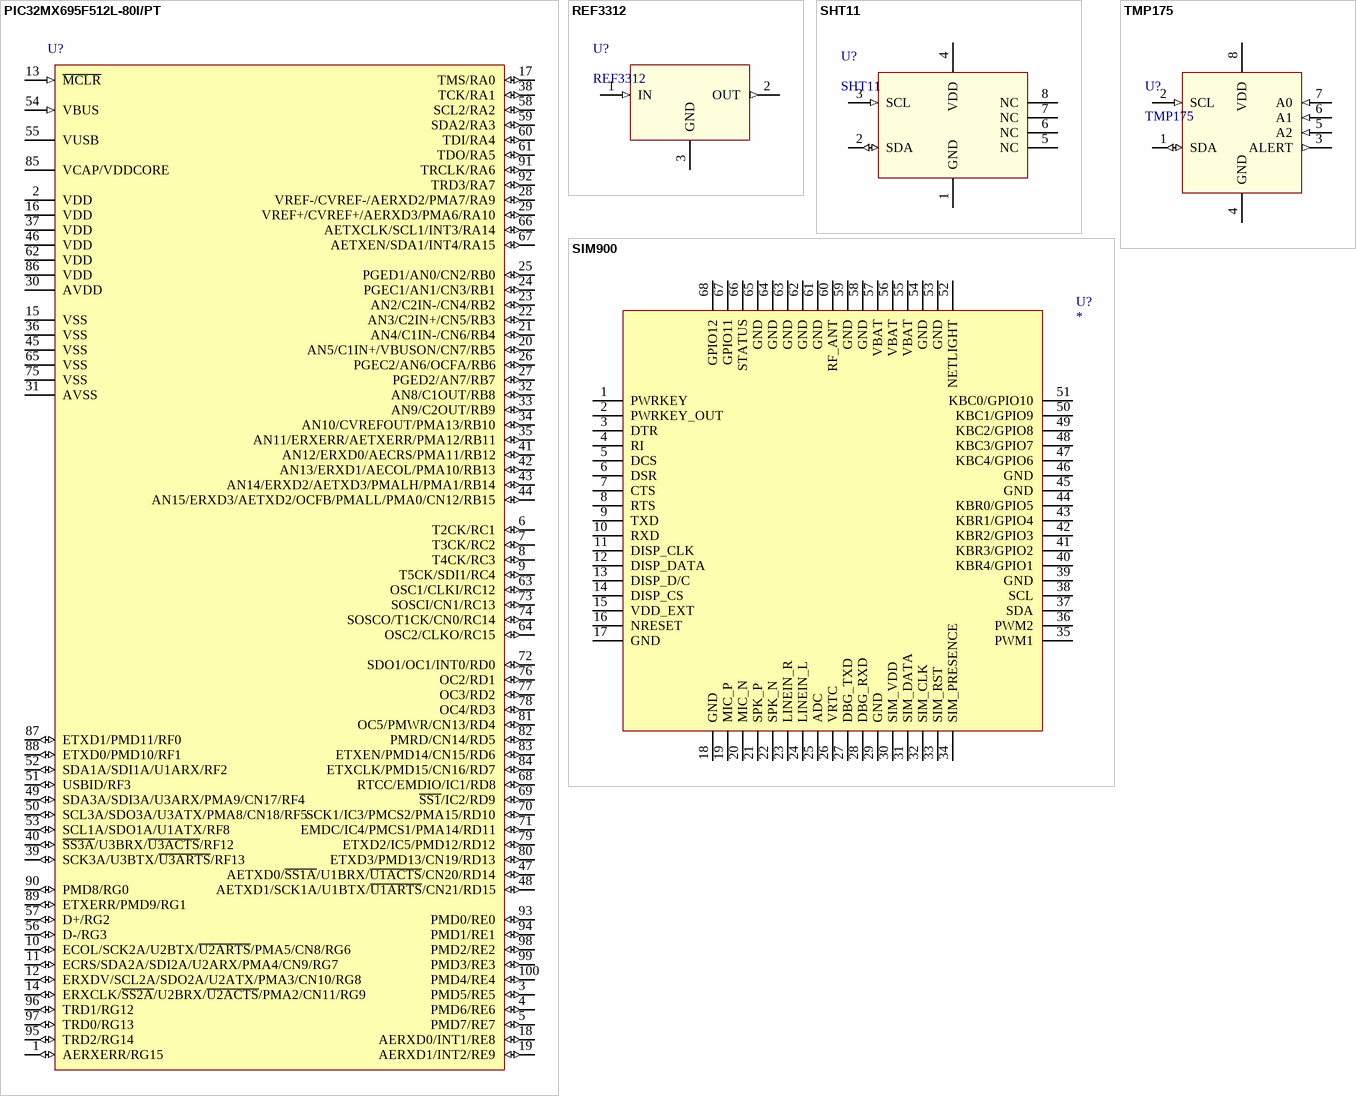
[diagram p4: symbols PIC32MX695F512L-80I/PT to TMP175]

## PIC32MX695F512L-80I/PT
designator U?
High Performance 80 MHz MIPS-Based 32-Bit Flash Microcontroller with USB and Ethernet, 512KB Program Memory, 100-pin TQFP, Industrial Temperature; Published: 2-Dec-2009; DatasheetVersion: revB, Nov-2009; PackageVersion: revBB, Aug-2009; PackageReference: TQFP-PT100; Publisher: Altium Limited; PackageDescription: 100-Lead Plastic Thin Quad Flatpack (PT) - 12x12x1mm Body, 2.00mm [TQFP]; Supplier 1: Digi-Key; Supplier Part Number 1: PIC32MX695F512L-80I/PT-ND; Supplier 2: Farnell; Supplier Part Number 2: 1778490; ComponentLink1Description: Datasheet; ComponentLink1URL: http://ww1.microchip.com/downloads/en/DeviceDoc/DS-61156B.pdf; ComponentLink2Description: Packaging Specification; ComponentLink2URL: http://ww1.microchip.com/downloads/en/PackagingSpec/en012702.pdf; ComponentLink3Description: Microchip.com Home; ComponentLink3URL: http://www.microchip.com/
footprint TQFP-100 (Thin QFP, 100-Leads, Body 12x12mm, Pitch 0.4mm, IPC Medium Density)
pins: 1 AERXERR/RG15 (io), 2 VDD (power), 3 PMD5/RE5 (io), 4 PMD6/RE6 (io), 5 PMD7/RE7 (io), 6 T2CK/RC1 (io), 7 T3CK/RC2 (io), 8 T4CK/RC3 (io), 9 T5CK/SDI1/RC4 (io), 10 ECOL/SCK2A/U2BTX/~{U2ARTS}/PMA5/CN8/RG6 (io), 11 ECRS/SDA2A/SDI2A/U2ARX/PMA4/CN9/RG7 (io), 12 ERXDV/SCL2A/SDO2A/U2ATX/PMA3/CN10/RG8 (io), 13 ~{MCLR} (in), 14 ERXCLK/~{SS2A}/U2BRX/~{U2ACTS}/PMA2/CN11/RG9 (io), 15 VSS (power), 16 VDD (power), 17 TMS/RA0 (io), 18 AERXD0/INT1/RE8 (io), 19 AERXD1/INT2/RE9 (io), 20 AN5/C1IN+/VBUSON/CN7/RB5 (io), 21 AN4/C1IN-/CN6/RB4 (io), 22 AN3/C2IN+/CN5/RB3 (io), 23 AN2/C2IN-/CN4/RB2 (io), 24 PGEC1/AN1/CN3/RB1 (io), 25 PGED1/AN0/CN2/RB0 (io), 26 PGEC2/AN6/OCFA/RB6 (io), 27 PGED2/AN7/RB7 (io), 28 VREF-/CVREF-/AERXD2/PMA7/RA9 (io), 29 VREF+/CVREF+/AERXD3/PMA6/RA10 (io), 30 AVDD (power), 31 AVSS (power), 32 AN8/C1OUT/RB8 (io), 33 AN9/C2OUT/RB9 (io), 34 AN10/CVREFOUT/PMA13/RB10 (io), 35 AN11/ERXERR/AETXERR/PMA12/RB11 (io), 36 VSS (power), 37 VDD (power), 38 TCK/RA1 (io), 39 SCK3A/U3BTX/~{U3ARTS}/RF13 (io), 40 ~{SS3A}/U3BRX/~{U3ACTS}/RF12 (io), 41 AN12/ERXD0/AECRS/PMA11/RB12 (io), 42 AN13/ERXD1/AECOL/PMA10/RB13 (io), 43 AN14/ERXD2/AETXD3/PMALH/PMA1/RB14 (io), 44 AN15/ERXD3/AETXD2/OCFB/PMALL/PMA0/CN12/RB15 (io), 45 VSS (power), 46 VDD (power), 47 AETXD0/~{SS1A}/U1BRX/~{U1ACTS}/CN20/RD14 (io), 48 AETXD1/SCK1A/U1BTX/~{U1ARTS}/CN21/RD15 (io), 49 SDA3A/SDI3A/U3ARX/PMA9/CN17/RF4 (io), 50 SCL3A/SDO3A/U3ATX/PMA8/CN18/RF5 (io), 51 USBID/RF3 (io), 52 SDA1A/SDI1A/U1ARX/RF2 (io), 53 SCL1A/SDO1A/U1ATX/RF8 (io), 54 VBUS (in), 55 VUSB (power), 56 D-/RG3 (io), 57 D+/RG2 (io), 58 SCL2/RA2 (io), 59 SDA2/RA3 (io), 60 TDI/RA4 (io), 61 TDO/RA5 (io), 62 VDD (power), 63 OSC1/CLKI/RC12 (io), 64 OSC2/CLKO/RC15 (io), 65 VSS (power), 66 AETXCLK/SCL1/INT3/RA14 (io), 67 AETXEN/SDA1/INT4/RA15 (io), 68 RTCC/EMDIO/IC1/RD8 (io), 69 ~{SS1}/IC2/RD9 (io), 70 SCK1/IC3/PMCS2/PMA15/RD10 (io), 71 EMDC/IC4/PMCS1/PMA14/RD11 (io), 72 SDO1/OC1/INT0/RD0 (io), 73 SOSCI/CN1/RC13 (io), 74 SOSCO/T1CK/CN0/RC14 (io), 75 VSS (power), 76 OC2/RD1 (io), 77 OC3/RD2 (io), 78 OC4/RD3 (io), 79 ETXD2/IC5/PMD12/RD12 (io), 80 ETXD3/PMD13/CN19/RD13 (io), 81 OC5/PMWR/CN13/RD4 (io), 82 PMRD/CN14/RD5 (io), 83 ETXEN/PMD14/CN15/RD6 (io), 84 ETXCLK/PMD15/CN16/RD7 (io), 85 VCAP/VDDCORE (power), 86 VDD (power), 87 ETXD1/PMD11/RF0 (io), 88 ETXD0/PMD10/RF1 (io), 89 ETXERR/PMD9/RG1 (io), 90 PMD8/RG0 (io), 91 TRCLK/RA6 (io), 92 TRD3/RA7 (io), 93 PMD0/RE0 (io), 94 PMD1/RE1 (io), 95 TRD2/RG14 (io), 96 TRD1/RG12 (io), 97 TRD0/RG13 (io), 98 PMD2/RE2 (io), 99 PMD3/RE3 (io), 100 PMD4/RE4 (io)

## REF3312
designator U?
Voltage Reference 1.25V, 30ppm/degC, 5mA; Type: IC; Creation Date: 2012-12-09
footprint SOT-23
pins: 1 IN (in), 2 OUT (out), 3 GND (power)

## SHT11
designator U?
Digital Humidity and Temperature Sensor; Type: IC; Creation Date: 2012-12-08
footprint SHT (Sensirion SHTx Humidity Sensor Footprint)
pins: 1 GND (power), 2 SDA (io), 3 SCL (in), 4 VDD (power), 5 NC, 6 NC, 7 NC, 8 NC

## SIM900
designator U?
SIM900
footprint SIM900
pins: 1 PWRKEY, 2 PWRKEY_OUT, 3 DTR, 4 RI, 5 DCS, 6 DSR, 7 CTS, 8 RTS, 9 TXD, 10 RXD, 11 DISP_CLK, 12 DISP_DATA, 13 DISP_D/C, 14 DISP_CS, 15 VDD_EXT, 16 NRESET, 17 GND, 18 GND, 19 MIC_P, 20 MIC_N, 21 SPK_P, 22 SPK_N, 23 LINEIN_R, 24 LINEIN_L, 25 ADC, 26 VRTC, 27 DBG_TXD, 28 DBG_RXD, 29 GND, 30 SIM_VDD, 31 SIM_DATA, 32 SIM_CLK, 33 SIM_RST, 34 SIM_PRESENCE, 35 PWM1, 36 PWM2, 37 SDA, 38 SCL, 39 GND, 40 KBR4/GPIO1, 41 KBR3/GPIO2, 42 KBR2/GPIO3, 43 KBR1/GPIO4, 44 KBR0/GPIO5, 45 GND, 46 GND, 47 KBC4/GPIO6, 48 KBC3/GPIO7, 49 KBC2/GPIO8, 50 KBC1/GPIO9, 51 KBC0/GPIO10, 52 NETLIGHT, 53 GND, 54 GND, 55 VBAT, 56 VBAT, 57 VBAT, 58 GND, 59 GND, 60 RF_ANT, 61 GND, 62 GND, 63 GND, 64 GND, 65 GND, 66 STATUS, 67 GPIO11, 68 GPIO12

## TMP175
designator U?
Digital Temperature Sensor; Type: IC; Creation Date: 2012-03-05
footprint SOIC-8 (Small Outline 8 leads Body Size 150mils)
pins: 1 SDA (io), 2 SCL (in), 3 ALERT (out), 4 GND (power), 5 A2 (in), 6 A1 (in), 7 A0 (in), 8 VDD (power)